# Altium schematic symbol library FBK_Schlib.SchLib: 18 symbols
Pins are listed as number, name and electrical type; pins without a type are passive.

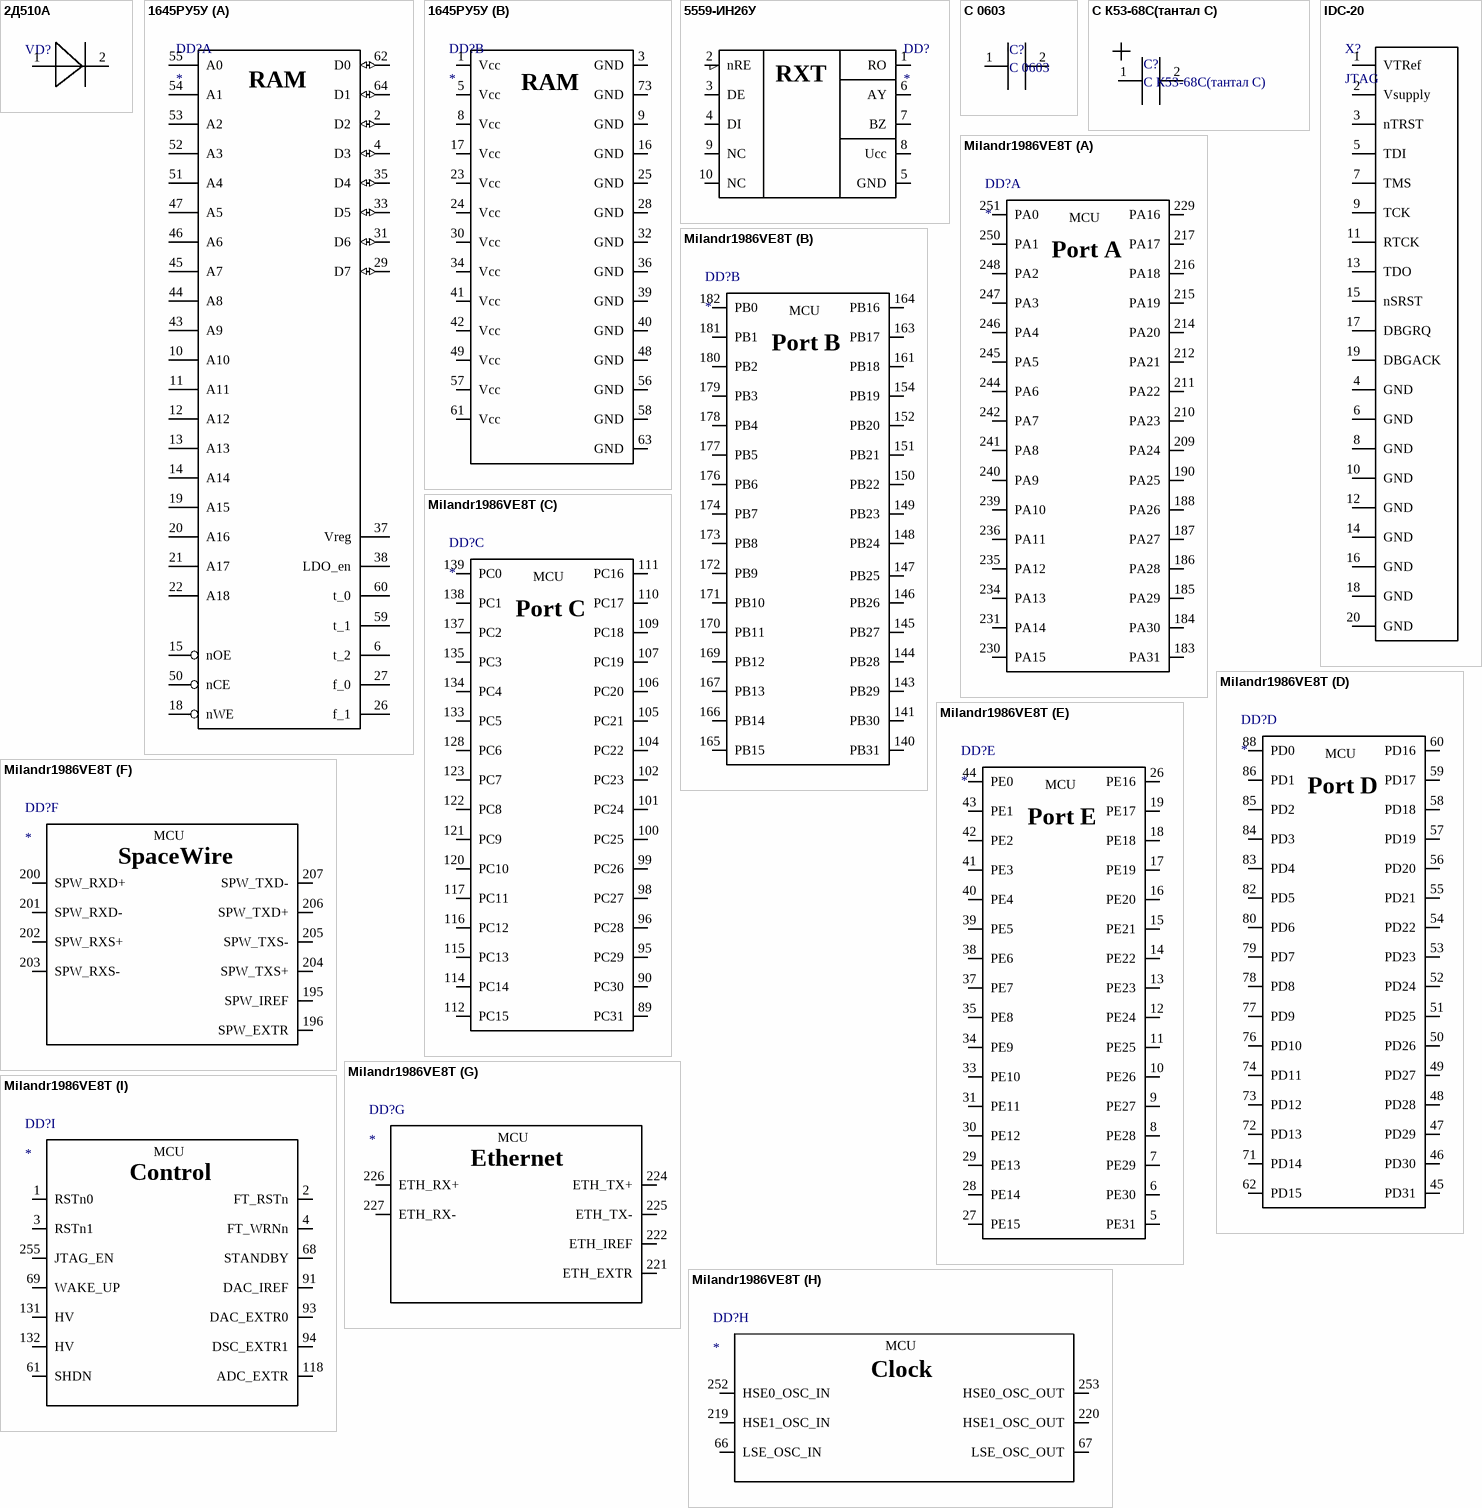
[diagram p0: symbols 2Д510А to Milandr1986VE8T]

## 2Д510А
designator VD?  (value not drawn)
footprint 2Д510А
pins: 1, 2

## 1645РУ5У
designator DD?
footprint 5134.64-6
part A pins: 2 D2 (io), 4 D3 (io), 6 t_2, 10 A10, 11 A11, 12 A12, 13 A13, 14 A14, 15 nOE, 18 nWE, 19 A15, 20 A16, 21 A17, 22 A18, 26 f_1, 27 f_0, 29 D7 (io), 31 D6 (io), 33 D5 (io), 35 D4 (io), 37 Vreg, 38 LDO_en, 43 A9, 44 A8, 45 A7, 46 A6, 47 A5, 50 nCE, 51 A4, 52 A3, 53 A2, 54 A1, 55 A0, 59 t_1, 60 t_0, 62 D0 (io), 64 D1 (io)
part B pins: 1 Vcc, 3 GND, 5 Vcc, 8 Vcc, 9 GND, 16 GND, 17 Vcc, 23 Vcc, 24 Vcc, 25 GND, 28 GND, 30 Vcc, 32 GND, 34 Vcc, 36 GND, 39 GND, 40 GND, 41 Vcc, 42 Vcc, 48 GND, 49 Vcc, 56 GND, 57 Vcc, 58 GND, 61 Vcc, 63 GND, 73 GND
part A text: RAM
part B text: RAM

## 5559-ИН26У
designator DD?
footprint H02.2-1-B
pins: 1 RO, 2 nRE, 3 DE, 4 DI, 5 GND, 6 AY, 7 BZ, 8 Ucc, 9 NC, 10 NC
text: RXT

## C 0603
designator C?
footprint C 0603
pins: 1, 2

## C К53-68С(тантал С)
designator C?
pins: 1, 2

## IDC-20
designator X?, comment JTAG
footprint IDC-20
pins: 1 VTRef, 2 Vsupply, 3 nTRST, 4 GND, 5 TDI, 6 GND, 7 TMS, 8 GND, 9 TCK, 10 GND, 11 RTCK, 12 GND, 13 TDO, 14 GND, 15 nSRST, 16 GND, 17 DBGRQ, 18 GND, 19 DBGACK, 20 GND

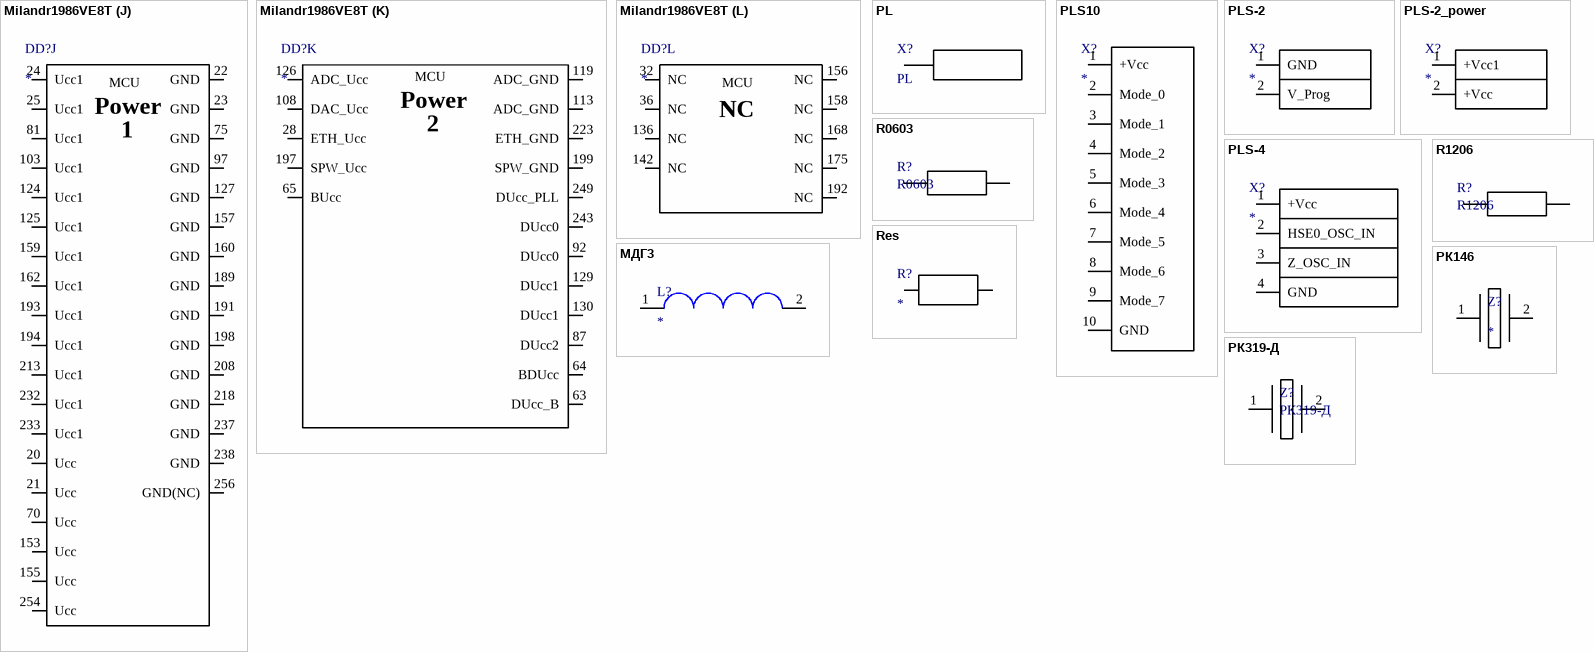
[diagram p1: symbols Milandr1986VE8T to РК319-Д]

## Milandr1986VE8T
designator DD?
Parameter 1: *
footprint 4244.256-3 (44ж)
part A pins: 183 PA31, 184 PA30, 185 PA29, 186 PA28, 187 PA27, 188 PA26, 190 PA25, 209 PA24, 210 PA23, 211 PA22, 212 PA21, 214 PA20, 215 PA19, 216 PA18, 217 PA17, 229 PA16, 230 PA15, 231 PA14, 234 PA13, 235 PA12, 236 PA11, 239 PA10, 240 PA9, 241 PA8, 242 PA7, 244 PA6, 245 PA5, 246 PA4, 247 PA3, 248 PA2, 250 PA1, 251 PA0
part B pins: 140 PB31, 141 PB30, 143 PB29, 144 PB28, 145 PB27, 146 PB26, 147 PB25, 148 PB24, 149 PB23, 150 PB22, 151 PB21, 152 PB20, 154 PB19, 161 PB18, 163 PB17, 164 PB16, 165 PB15, 166 PB14, 167 PB13, 169 PB12, 170 PB11, 171 PB10, 172 PB9, 173 PB8, 174 PB7, 176 PB6, 177 PB5, 178 PB4, 179 PB3, 180 PB2, 181 PB1, 182 PB0
part C pins: 89 PC31, 90 PC30, 95 PC29, 96 PC28, 98 PC27, 99 PC26, 100 PC25, 101 PC24, 102 PC23, 104 PC22, 105 PC21, 106 PC20, 107 PC19, 109 PC18, 110 PC17, 111 PC16, 112 PC15, 114 PC14, 115 PC13, 116 PC12, 117 PC11, 120 PC10, 121 PC9, 122 PC8, 123 PC7, 128 PC6, 133 PC5, 134 PC4, 135 PC3, 137 PC2, 138 PC1, 139 PC0
part D pins: 45 PD31, 46 PD30, 47 PD29, 48 PD28, 49 PD27, 50 PD26, 51 PD25, 52 PD24, 53 PD23, 54 PD22, 55 PD21, 56 PD20, 57 PD19, 58 PD18, 59 PD17, 60 PD16, 62 PD15, 71 PD14, 72 PD13, 73 PD12, 74 PD11, 76 PD10, 77 PD9, 78 PD8, 79 PD7, 80 PD6, 82 PD5, 83 PD4, 84 PD3, 85 PD2, 86 PD1, 88 PD0
part E pins: 5 PE31, 6 PE30, 7 PE29, 8 PE28, 9 PE27, 10 PE26, 11 PE25, 12 PE24, 13 PE23, 14 PE22, 15 PE21, 16 PE20, 17 PE19, 18 PE18, 19 PE17, 26 PE16, 27 PE15, 28 PE14, 29 PE13, 30 PE12, 31 PE11, 33 PE10, 34 PE9, 35 PE8, 37 PE7, 38 PE6, 39 PE5, 40 PE4, 41 PE3, 42 PE2, 43 PE1, 44 PE0
part F pins: 195 SPW_IREF, 196 SPW_EXTR, 200 SPW_RXD+, 201 SPW_RXD-, 202 SPW_RXS+, 203 SPW_RXS-, 204 SPW_TXS+, 205 SPW_TXS-, 206 SPW_TXD+, 207 SPW_TXD-
part G pins: 221 ETH_EXTR, 222 ETH_IREF, 224 ETH_TX+, 225 ETH_TX-, 226 ETH_RX+, 227 ETH_RX-
part H pins: 66 LSE_OSC_IN, 67 LSE_OSC_OUT, 219 HSE1_OSC_IN, 220 HSE1_OSC_OUT, 252 HSE0_OSC_IN, 253 HSE0_OSC_OUT
part I pins: 1 RSTn0, 2 FT_RSTn, 3 RSTn1, 4 FT_WRNn, 61 SHDN, 68 STANDBY, 69 WAKE_UP, 91 DAC_IREF, 93 DAC_EXTR0, 94 DSC_EXTR1, 118 ADC_EXTR, 131 HV, 132 HV, 255 JTAG_EN
part J pins: 20 Ucc, 21 Ucc, 22 GND, 23 GND, 24 Ucc1, 25 Ucc1, 70 Ucc, 75 GND, 81 Ucc1, 97 GND, 103 Ucc1, 124 Ucc1, 125 Ucc1, 127 GND, 153 Ucc, 155 Ucc, 157 GND, 159 Ucc1, 160 GND, 162 Ucc1, 189 GND, 191 GND, 193 Ucc1, 194 Ucc1, 198 GND, 208 GND, 213 Ucc1, 218 GND, 232 Ucc1, 233 Ucc1, 237 GND, 238 GND, 254 Ucc, 256 GND(NC)
part K pins: 28 ETH_Ucc, 63 DUcc_B, 64 BDUcc, 65 BUcc, 87 DUcc2, 92 DUcc0, 108 DAC_Ucc, 113 ADC_GND, 119 ADC_GND, 126 ADC_Ucc, 129 DUcc1, 130 DUcc1, 197 SPW_Ucc, 199 SPW_GND, 223 ETH_GND, 243 DUcc0, 249 DUcc_PLL
part L pins: 32 NC, 36 NC, 136 NC, 142 NC, 156 NC, 158 NC, 168 NC, 175 NC, 192 NC
part A text: MCU; Port A
part B text: MCU; Port B
part C text: MCU; Port C
part D text: MCU; Port D
part E text: MCU; Port E
part F text: MCU; SpaceWire
part G text: MCU; Ethernet
part H text: MCU; Clock
part I text: MCU; Control
part J text: MCU; Power
part K text: MCU; Power
part L text: MCU

## PL
designator X?
footprint PL
pins: ?1 name

## PLS10
designator X?
footprint PLS10
pins: 1 +Vcc, 2 Mode_0, 3 Mode_1, 4 Mode_2, 5 Mode_3, 6 Mode_4, 7 Mode_5, 8 Mode_6, 9 Mode_7, 10 GND

## PLS-2
designator X?
footprint pls2
pins: 1 GND, 2 V_Prog

## PLS-2_power
designator X?
footprint pls2
pins: 1 +Vcc1, 2 +Vcc

## PLS-4
designator X?
footprint pls4
pins: 1 +Vcc, 2 HSE0_OSC_IN, 3 Z_OSC_IN, 4 GND

## R0603
designator R?
footprint C 0603
pins: 1, 2

## R1206
designator R?
footprint R1206
pins: 1, 2

## Res
designator R?
footprint Res 0805
pins: 1, 2

## МДГ3
designator L?
footprint МДГ3
pins: 1, 2

## РК146
designator Z?
footprint РК146
pins: 1, 2

## РК319-Д
designator Z?
footprint РК319-Д
pins: 1, 2